# EAGLE library part LCD_NHD-C12832A1Z (library 3D_MIG_Controller)
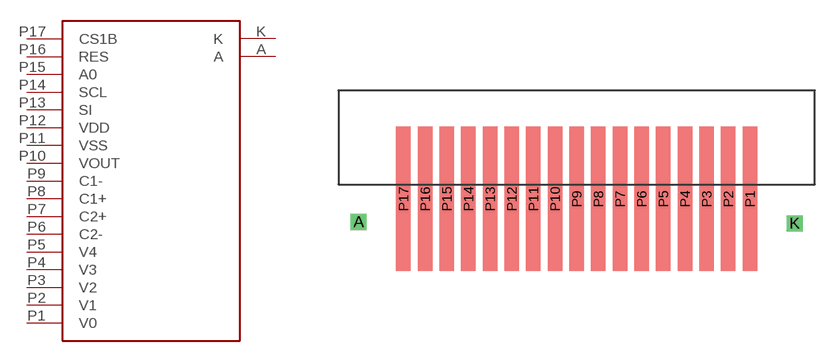
[diagram p42: symbol with the pads of LCD_NHD-C12832A1Z; footprint LCD_NHD-C12832A1Z]

Designator prefix LCD

## LCD_NHD-C12832A1Z  [LCD_NHD-C12832A1Z]
A  A
K  K
P1  V0
P2  V1
P3  V2
P4  V3
P5  V4
P6  C2-
P7  C2+
P8  C1+
P9  C1-
P10  VOUT
P11  VSS
P12  VDD
P13  SI
P14  SCL
P15  A0
P16  RES
P17  CS1B

## Footprint LCD_NHD-C12832A1Z (pad centres in mm)
drill 0.6 square: A -13.6,-1.6; K 16.6,-1.7
smd 1 x 10: P1 13.5,0; P2 12,0; P3 10.5,0; P4 9,0; P5 7.5,0; P6 6,0; P7 4.5,0; P8 3,0; P9 1.5,0; P10 0,0; P11 -1.5,0; P12 -3,0; P13 -4.5,0; P14 -6,0; P15 -7.5,0; P16 -9,0; P17 -10.5,0